# EAGLE library part FPC-17WAY (library pimoroni-fpc)
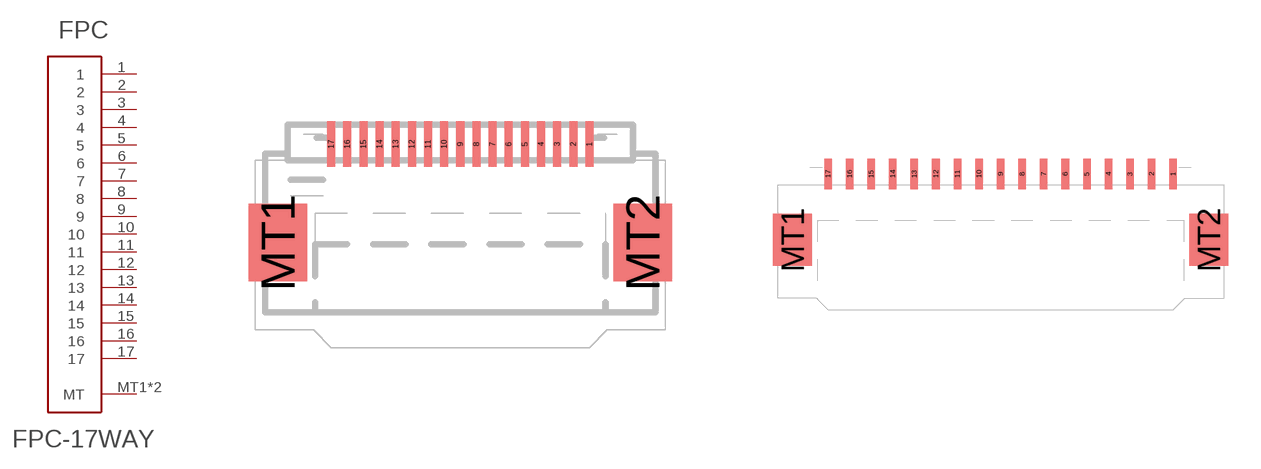
[diagram p12: symbol with the pads of FPC-0.5MM-17WAY; footprints FPC-0.5MM-17WAY, FPC-1.0MM-17WAY]

Designator prefix FPC

## FPC-17WAY0.5  [FPC-0.5MM-17WAY]
1  1
2  2
3  3
4  4
5  5
6  6
7  7
8  8
9  9
10  10
11  11
12  12
13  13
14  14
15  15
16  16
17  17
MT1  MT
MT2  MT

## FPC-17WAY1.0  [FPC-1.0MM-17WAY]
Pads as for FPC-0.5MM-17WAY

## Footprint FPC-0.5MM-17WAY (pad centres in mm)
smd 0.25 x 1.4: 1 4,0.7; 2 3.5,0.7; 3 3,0.7; 4 2.5,0.7; 5 2,0.7; 6 1.5,0.7; 7 1,0.7; 8 0.5,0.7; 9 0,0.7; 10 -0.5,0.7; 11 -1,0.7; 12 -1.5,0.7; 13 -2,0.7; 14 -2.5,0.7; 15 -3,0.7; 16 -3.5,0.7; 17 -4,0.7
smd 1.8 x 2.4: MT1 -5.65,-2.35; MT2 5.65,-2.35

## Footprint FPC-1.0MM-17WAY (pad centres in mm)
smd 0.35 x 1.4: 1 8,0.7; 2 7,0.7; 3 6,0.7; 4 5,0.7; 5 4,0.7; 6 3,0.7; 7 2,0.7; 8 1,0.7; 9 0,0.7; 10 -1,0.7; 11 -2,0.7; 12 -3,0.7; 13 -4,0.7; 14 -5,0.7; 15 -6,0.7; 16 -7,0.7; 17 -8,0.7
smd 1.8 x 2.4: MT1 -9.65,-2.35; MT2 9.65,-2.35